# EAGLE library part TPS256X (library Bauteile)
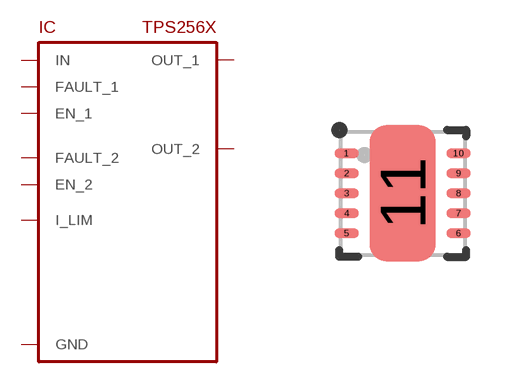
[diagram p120: symbol with the pads of VSON10; footprint VSON10]

Designator prefix IC

## TPS256X  [VSON10]
1  GND
2  IN
3  IN
4  EN_1
5  EN_2
6  FAULT_2
7  I_LIM
8  OUT_2
9  OUT_1
10  FAULT_1
11  GND

## Footprint VSON10 (pad centres in mm)
smd 0.6 x 0.24: 1 -1.4,1; 2 -1.4,0.5; 3 -1.4,0; 4 -1.4,-0.5; 5 -1.4,-1; 6 1.4,-1; 7 1.4,-0.5; 8 1.4,0; 9 1.4,0.5; 10 1.4,1
smd 1.65 x 3.4: 11 0,0